# EAGLE library part ECT1120A (library GPIB_epccs)
ECTRON 1120A Thermocouple simulator calibrator
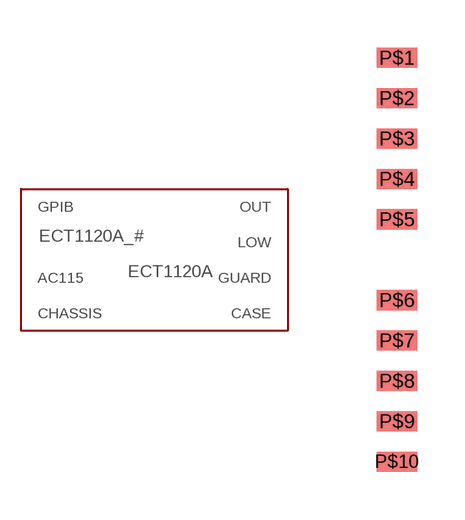
[diagram p4: symbol with the pads of POS10; footprint POS10]

Designator prefix ECT1120A_#

## ECT1120A  [POS10]
P$1  AC115
P$2  CASE
P$3  CHASSIS
P$4  GPIB
P$5  GUARD
P$6  LOW
P$7  OUT

## Footprint POS10 (pad centres in mm)
10 position
smd 1.27 x 0.635: P$1 0,6.35; P$2 0,5.08; P$3 0,3.81; P$4 0,2.54; P$5 0,1.27; P$6 0,-1.27; P$7 0,-2.54; P$8 0,-3.81; P$9 0,-5.08; P$10 0,-6.35